# Altium schematic symbol library Boc1_3.schlib: 46 symbols
Pins are listed as number, name and electrical type; pins without a type are passive.

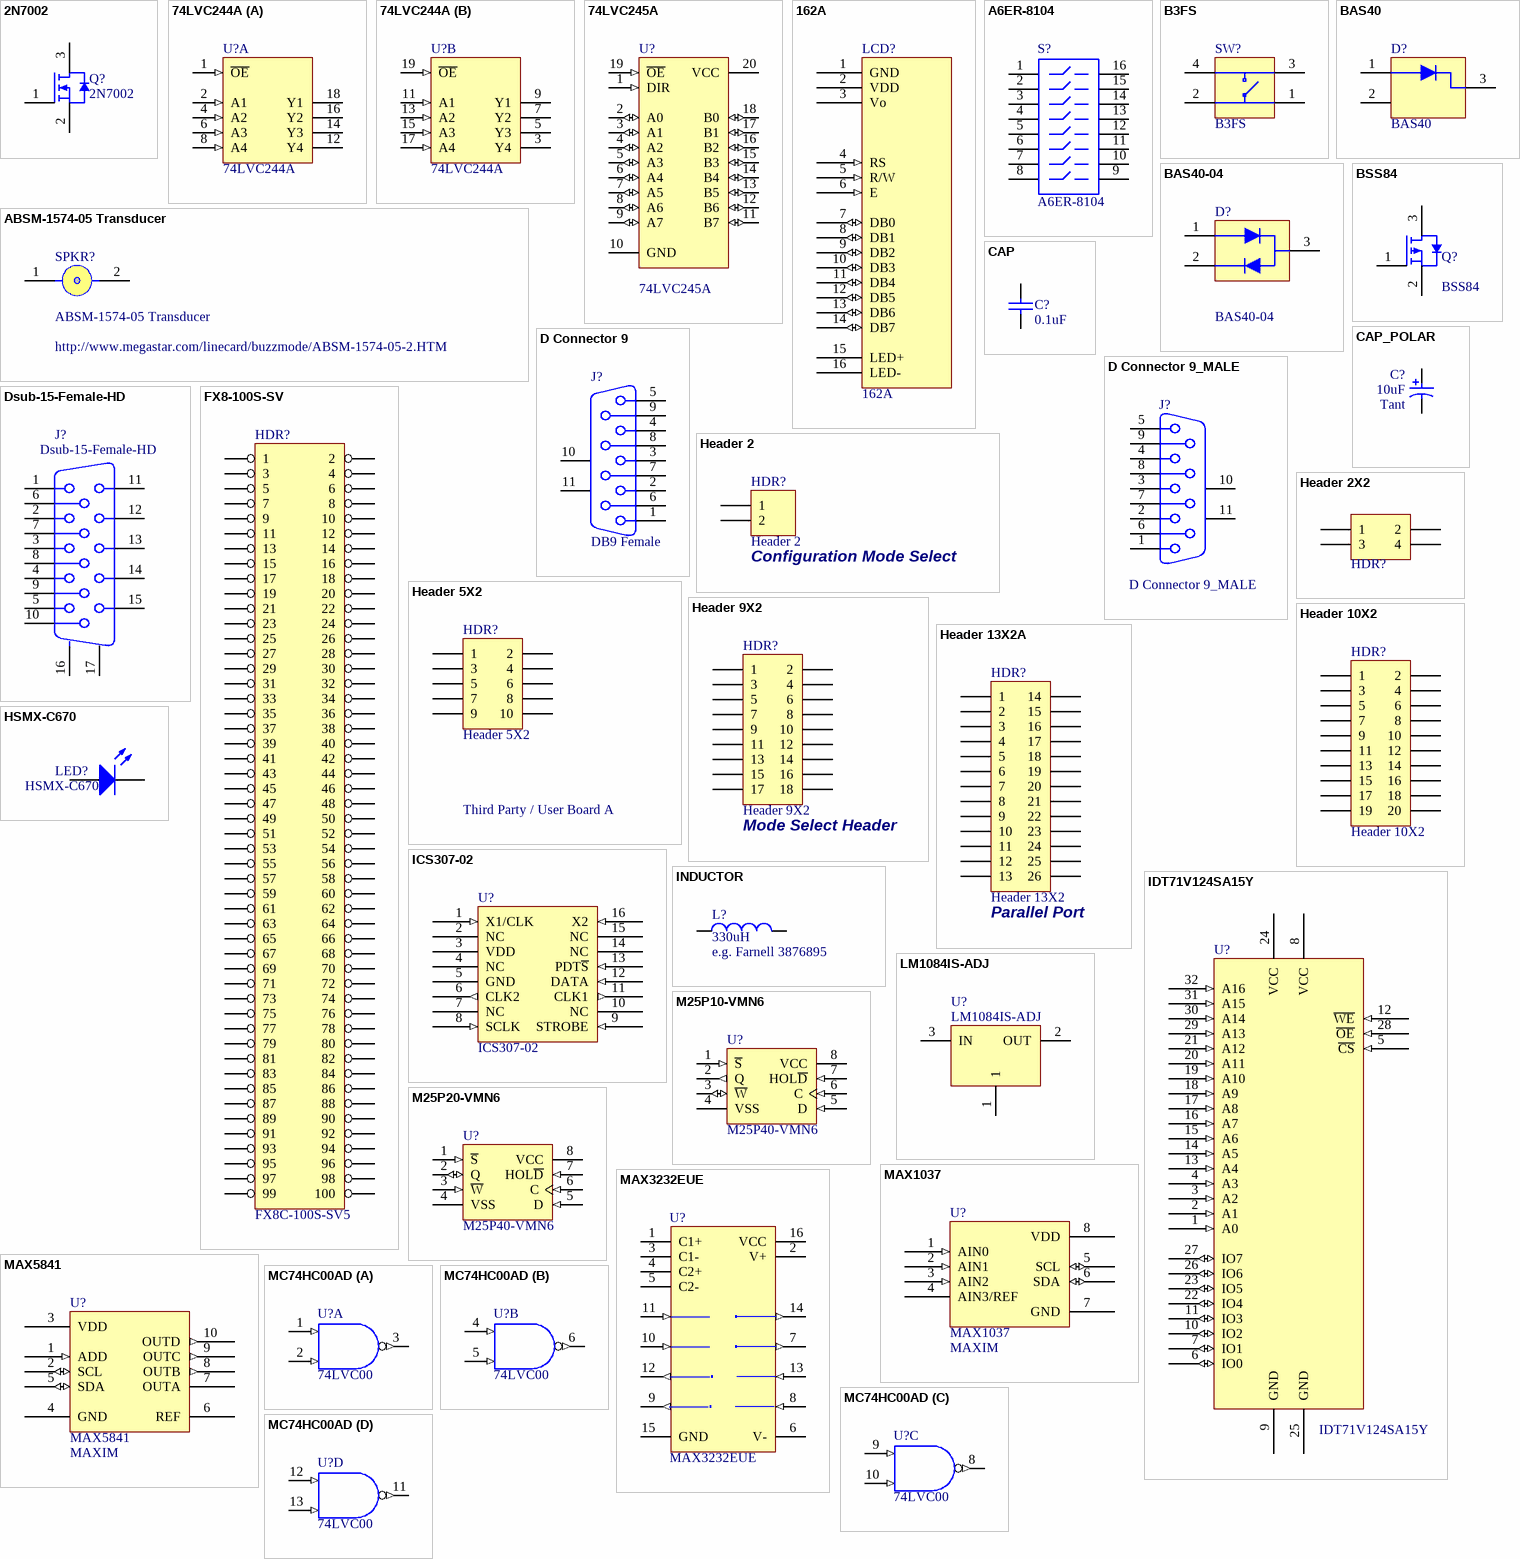
[diagram p0: symbols 2N7002 to MC74HC00AD]

## 2N7002
designator Q?
N Channel Mosfet; Fitted: True
footprint Model Name (Model Description)
footprint SO-G3
pins: 1 "Gate", 2 "Source", 3 "Drain"
1 alternate drawing of the same symbol

## 74LVC244A
designator U?
Octal Buffer/Driver with 3-State Outputs; Manufacturer: Philips; Package Information: Latest Revision: 1998; Class I: Logic; Class II: Buffer/Line Driver; Fitted: True; Published: 8-Jun-2000; Revision: July-2002: Re-released for DXP Platform.; Datasheet: Latest Revision: Jul-1998; Package Reference: SSOP20; Publisher: Altium Limited
signal-integrity model SNJ54AHC244FK
footprint SSO-G20/P.65
pins on every part: 10 GND (power) hidden to GND, 20 VCC (power) hidden to VCC
part A pins: 1 ~{OE} (in), 2 A1 (in), 4 A2 (in), 6 A3 (in), 8 A4 (in), 12 Y4 (hiz), 14 Y3 (hiz), 16 Y2 (hiz), 18 Y1 (hiz)
part B pins: 3 Y4 (hiz), 5 Y3 (hiz), 7 Y2 (hiz), 9 Y1 (hiz), 11 A1 (in), 13 A2 (in), 15 A3 (in), 17 A4 (in), 19 ~{OE} (in)

## 74LVC245A
designator U?
Octal Bus Transceiver with 3-State Outputs; Manufacturer: Texas Instruments; Revision 1: 12-July-2000: SIM Model Added.; Revision 2: July-2002: Re-released for DXP Platform.; Class I: Interface; Class II: Line Transceiver; Fitted: True; Published: 8-Jun-2000; Datasheet: Latest Revision: Oct-1993; Package Reference: J020; Publisher: Altium Limited
simulation model SN74F245 (SIMCODE)
signal-integrity model SN54F245J
footprint SSO-G20/P.65
pins: 1 DIR (in), 2 A0 (io), 3 A1 (io), 4 A2 (io), 5 A3 (io), 6 A4 (io), 7 A5 (io), 8 A6 (io), 9 A7 (io), 10 GND (power), 11 B7 (io), 12 B6 (io), 13 B5 (io), 14 B4 (io), 15 B3 (io), 16 B2 (io), 17 B1 (io), 18 B0 (io), 19 ~{OE} (in), 20 VCC (power)

## 162A
designator LCD?
16 char * 2 line LCD character display with b/light; Fitted: True
footprint 162A
pins: 1 GND (power) "VSS - 0V", 2 VDD (power) "VDD - 5V", 3 Vo (hiz) "Input Voltage For LCD", 4 RS (in) "H = Data Signal, L = Instrunction Signal", 5 R/W (in) "H = Read Mode, L = Write Mode", 6 E (in) "Chip Enable (H, H->L)", 7 DB0 (io) "Chip Enable (H, H->L)", 8 DB1 (io) "Chip Enable (H, H->L)", 9 DB2 (io) "Chip Enable (H, H->L)", 10 DB3 (io) "Chip Enable (H, H->L)", 11 DB4 (io) "Chip Enable (H, H->L)", 12 DB5 (io) "Chip Enable (H, H->L)", 13 DB6 (io) "Chip Enable (H, H->L)", 14 DB7 (io) "Chip Enable (H, H->L)", 15 LED+ (power) "LED Backlight +", 16 LED- (power) "LED Backlight -"

## A6ER-8104
designator S?
DIP Switch Side actuator long liver Piano Key; Manufacturer: Generic Components; Fitted: True; Published: 24-Mar-1999; Revision: July-2002: Re-released for DXP Platform.; Publisher: Altium Limited
footprint DIP-16-KEY
simulation model dpsw8 (Spice Subcircuit)
pins: 1, 2, 3, 4, 5, 6, 7, 8, 9, 10, 11, 12, 13, 14, 15, 16

## ABSM-1574-05 Transducer
designator SPKR?
Megastar Subminiature Transducer; Fitted: True; Web: http://www.megastar.com/linecard/buzzmode/ABSM-1574-05-2.HTM
footprint ABSM-1574 (Magnetic Transducer)
pins: 1, 1A, 2, 2A

## B3FS
designator SW?
SPNA SMD Keyboard Switch; Fitted: True; Comment_1: B3FS
footprint B3FS_SWITCH
pins: 1, 2, 3, 4

## BAS40
designator D?
Shottky Diode; Fitted: True
footprint SO-G3
pins: 1, 2, 3

## BAS40-04
designator D?
Shottky Diode Pair; Fitted: True
footprint SO-G3
pins: 1, 2, 3

## BSS84
designator Q?
P Channel Mosfet; Fitted: True
footprint Model Name (Model Description)
footprint SO-G3
pins: 1 "Gate", 2 "Source", 3 "Drain"

## CAP
designator C?, comment 0.1uF
Capacitor; Fitted: True
footprint CC1005-0402 (0402 Capacitor)
footprint CC1608-0603 (0603 Capacitor)
footprint CC2012-0805
footprint CC3216-1206 (1206 Capacitor)
footprint CC3225-1210 (1210 Capacitor)
pins: 1, 2

## CAP_POLAR
designator C?, comment 10uF  Capacitor Type: Tant
Polar Capacitor; Fitted: True
footprint MCCT-A (3216 Polar Capacitor)
footprint MCCT-B (3528 Polar Capacitor)
footprint MCCT-C (6032 Polar Capacitor)
footprint MCCT-D (7343 Polar Capacitor)
footprint RB8/3.5
pins: 1, 2

## D Connector 9
designator J?, comment DB9 Female
Receptacle Assembly, 9 Position, Right Angle; Manufacturer: Generic Components; Package Information: Latest Revision: O; Class I: Connector; Positions: 9; Fitted: True; Published: 15-Jun-2001; Revision: July-2002: Re-released for DXP Platform.; Datasheet: (1-Sep-1999); Package Reference: 788750; Publisher: Altium Limited; Orientation: Right Angle; Gender: Receptacle
footprint DSUB1.385-2H9
signal-integrity model Connector
pins: 1, 2, 3, 4, 5, 6, 7, 8, 9, 10 MH1, 11 MH2

## D Connector 9_MALE
designator J?
Receptacle Assembly, 9 Position, Right Angle; Manufacturer: Generic Components; Package Information: Latest Revision: O; Positions: 9; Fitted: True; Published: 15-Jun-2001; Revision: July-2002: Re-released for DXP Platform.; Datasheet: (1-Sep-1999); Package Reference: 788750; Publisher: Altium Limited; Class I: Connector; Orientation: Right Angle; Gender: Receptacle
footprint DSUB1.9_MALE
signal-integrity model Connector
pins: 1, 2, 3, 4, 5, 6, 7, 8, 9, 10 MH1, 11 MH2

## Dsub-15-Female-HD
designator J?
Dsub-15 High density VGA Female connetor; Manufacturer: Generic Components; Package Information: Latest Revision: E; Class I: Connector; Positions: 30; Gender: Receptacle Header; Fitted: True; Published: 15-Jun-2001; Revision: July-2002: Re-released for DXP Platform.; Datasheet: (31-Oct-1991); Package Reference: 174213; Publisher: Altium Limited; Orientation: Right Angle
signal-integrity model Connector
footprint DB15-VGA-Female (High density D sub 15 pin Female connector)
pins: 1 "Red Video", 2 "Green Video", 3 "Blue Video", 4 "Monitor ID Bit 2 (Ground)", 5 (power) "Ground", 6 (power) "Red Return (Ground)", 7 (power) "Green Return (Ground)", 8 (power) "Blue Return (Ground)", 9 "Key (not used)", 10 (power) "Sync Return (Ground)", 11 (power) "Monitor ID Bit 0 (Ground)", 12 "Monitor ID Bit 1 (Not Used)", 13 "Horizontal Zync", 14 "Vertical Sync", 15 "Vertical Sync", 16 MH1 "shield", 17 MH2 "shield"

## FX8-100S-SV
designator HDR?, comment FX8C-100S-SV5
Dual row 100 pin SM connector; Fitted: True
footprint FX8-100S-SV
pins: 1, 2, 3, 4, 5, 6, 7, 8, 9, 10, 11, 12, 13, 14, 15, 16, 17, 18, 19, 20, 21, 22, 23, 24, 25, 26, 27, 28, 29, 30, 31, 32, 33, 34, 35, 36, 37, 38, 39, 40, 41, 42, 43, 44, 45, 46, 47, 48, 49, 50, 51, 52, 53, 54, 55, 56, 57, 58, 59, 60, 61, 62, 63, 64, 65, 66, 67, 68, 69, 70, 71, 72, 73, 74, 75, 76, 77, 78, 79, 80, 81, 82, 83, 84, 85, 86, 87, 88, 89, 90, 91, 92, 93, 94, 95, 96, 97, 98, 99, 100

## Header 2
designator HDR?  Usage: Configuration Mode Select
Header, 2-Pin; Manufacturer: Generic Components; Class I: Connector; Fitted: False; Revision: July-2002: Re-released for DXP Platform.; Publisher: Altium Limited
footprint HDR1X2
signal-integrity model Connector
pins: 1, 2

## Header 2X2
designator HDR?  (value not drawn)
Header, 2-Pin, Dual row; Manufacturer: Generic Components; Class I: Connector; Fitted: True; Revision: July-2002: Re-released for DXP Platform.; Publisher: Altium Limited
footprint HDR2X2
signal-integrity model Connector
footprint HDR2X2_B (2x2 HDR un-numbered)
pins: 1, 2, 3, 4

## Header 5X2
designator HDR?  Usage: Third Party / User Board A
Header, 5-Pin, Dual row; Manufacturer: Generic Components; Class I: Connector; Fitted: True; Revision: July-2002: Re-released for DXP Platform.; Publisher: Altium Limited
footprint HDR2X5
signal-integrity model Connector
pins: 1, 2, 3, 4, 5, 6, 7, 8, 9, 10

## Header 9X2
designator HDR?  Usage: Mode Select Header
Header, 9-Pin, Dual row; Manufacturer: Generic Components; Class I: Connector; Fitted: True; Revision: July-2002: Re-released for DXP Platform.; Publisher: Altium Limited
footprint HDR2X9
signal-integrity model Connector
pins: 1, 2, 3, 4, 5, 6, 7, 8, 9, 10, 11, 12, 13, 14, 15, 16, 17, 18

## Header 10X2
designator HDR?
Header, 10-Pin, Dual row; Manufacturer: Generic Components; Class I: Connector; Fitted: True; Revision: July-2002: Re-released for DXP Platform.; Publisher: Altium Limited
footprint HDR2X10
signal-integrity model Connector
pins: 1, 2, 3, 4, 5, 6, 7, 8, 9, 10, 11, 12, 13, 14, 15, 16, 17, 18, 19, 20

## Header 13X2A
designator HDR?, comment Header 13X2  Usage: Parallel Port
Header, 13-Pin, Dual row; Manufacturer: Generic Components; Class I: Connector; Fitted: True; Revision: July-2002: Re-released for DXP Platform.; Publisher: Altium Limited
footprint HDR2X13_CEN
signal-integrity model Connector
pins: 1, 2, 3, 4, 5, 6, 7, 8, 9, 10, 11, 12, 13, 14, 15, 16, 17, 18, 19, 20, 21, 22, 23, 24, 25, 26

## HSMX-C670
designator LED?
Typical RED GaAs SMD LED Agilent make; Manufacturer: Generic Components; Class I: Optoelectronic; Fitted: True; Published: 8-Jun-2000; Revision: July-2002: Re-released for DXP Platform.; Publisher: Altium Limited; Class II: LED
footprint SMD _LED
simulation model LED1 (Diode)
pins: 1 A, 2 K

## ICS307-02
designator U?
Serial Programmable PLL Oscillator; Fitted: True
footprint SO-G16
pins: 1 X1/CLK (in) "Reference Word Devider Input", 2 NC "Reference Word Devider Input", 3 VDD (power) "Positive Supply, 3V3 or 5V", 4 NC, 5 GND (power), 6 CLK2 (out) "Fixed Clock Ref", 7 NC "Crystal connection", 8 SCLK (in) "Serial Programming Clock", 9 STROBE (in) "Serial Programming Strobe", 10 NC, 11 CLK1 (out) "Variable Clock Output", 12 DATA (in) "Serial Programming Data", 13 PDT~{S} (in) "Low = TriState CLK1 and CLK2 and Power Down", 14 NC, 15 NC, 16 X2 (in) "Crystal Terminal"

## IDT71V124SA15Y
designator U?
128K x 8 bit Fast Static RAM; Fitted: True; Supplier: IDT
footprint SO-J32
pins: 1 A0 (in) "Address 0", 2 A1 (in) "Address 1", 3 A2 (in) "Address 3", 4 A3 (in) "Address 3", 5 ~{CS} (in) "Chip Select", 6 IO0 (io) "Data 0", 7 IO1 (io) "Data 1", 8 VCC (power) "Pos Supply", 9 GND (power), 10 IO2 (io) "Data 2", 11 IO3 (io) "Data 3", 12 ~{WE} (in) "Write Enable", 13 A4 (in) "Address 4", 14 A5 (in) "Address 5", 15 A6 (in) "Address 6", 16 A7 (in) "Address 7", 17 A8 (in) "Address 8", 18 A9 (in) "Address 9", 19 A10 (in) "Address 10", 20 A11 (in) "Address 11", 21 A12 (in) "Address 12", 22 IO4 (io) "Data 4", 23 IO5 (io) "Data 5", 24 VCC (power) "Pos Supply", 25 GND (power), 26 IO6 (io) "Data 6", 27 IO7 (io) "Data 7", 28 ~{OE} (in) "Output Enable", 29 A13 (in) "Address 13", 30 A14 (in) "Address 14", 31 A15 (in) "Address 15", 32 A16 (in) "Address 16"

## INDUCTOR
designator L?, comment 330uH  Part No: e.g. Farnell 3876895
Inductor e.g. Farnell 3876895; Fitted: True
footprint DT3316 (Model Description)
footprint CC4532-1812
pins: 1, 2

## LM1084IS-ADJ
designator U?
5A Low Dropout Possitive Regulators; Fitted: True
footprint TO-263 (D2-PACK SIP-G3/P2.54)
pins: 1 "Output", 2 OUT (power) "Output", 3 IN (power) "Input"

## M25P10-VMN6
designator U?, comment M25P40-VMN6
4 Mbit Flash Serial Prom; Fitted: True
footprint SO-G8
pins: 1 ~{S} (in), 2 Q (out) "Serial Output", 3 ~{W} (io) "Serial Output", 4 VSS (power) "Serial Output", 5 D (in) "Serial Input", 6 C (in) "Serial Input", 7 HOL~{D} (in) "Serial Input", 8 VCC (power) "Serial Input"

## M25P20-VMN6
designator U?, comment M25P40-VMN6
4 Mbit Flash Serial Prom; Fitted: True
footprint SO-G8
pins: 1 ~{S} (in), 2 Q (io) "Serial Output", 3 ~{W} (in) "Serial Output", 4 VSS (power) "Serial Output", 5 D (in) "Serial Input", 6 C (in) "Serial Input", 7 HOL~{D} (in) "Serial Input", 8 VCC (power) "Serial Input"

## MAX1037
designator U?  Supplier: MAXIM
4 Channel 8 Bit ADC, I2C interface, 2.7V to 3.6V Supply; Fitted: True
footprint SOT23_8
pins: 1 AIN0 (in) "Analog Input 0", 2 AIN1 (in) "Analog Input 0", 3 AIN2 (in) "Analog Input 0", 4 AIN3/REF (power) "Analog Input 3/ Reference Input", 5 SCL (io) "I2C Clock Line", 6 SDA (io) "I2C Data Line", 7 GND (power), 8 VDD (power) "Positive Supply"

## MAX3232EUE
designator U?
3.0V TO 5.5V, Low-Power, up to 1Mbps, True RS-232 Transceiver Using Four 0.1µF External Capacitor; Manufacturer: Maxim,ST; Package Information: Latest Revision: 21-0066 C; Class I: Communication; Published: 16-Jan-2001; Revision: July-2002: Re-released for DXP Platform.; Datasheet: Latest Revision: Mar-1999; Package Reference: TSSOP16; Publisher: Altium Limited; Class II: Transceiver; Fitted: True
footprint SO-G16
pins: 1 C1+, 2 V+ (power), 3 C1-, 4 C2+, 5 C2-, 6 V- (power), 7 T2OUT (out), 8 R2IN (in), 9 R2OUT (out), 10 T2IN (in), 11 T1IN (in), 12 R1OUT (out), 13 R1IN (in), 14 T1OUT (out), 15 GND (power), 16 VCC (power)

## MAX5841
designator U?  Supplier: MAXIM
4 Channel DAC,I2C,2.7V to 5.5V; Fitted: True
footprint uSOP10
pins: 1 ADD (in) "I2C Address Select", 2 SCL (io) "I2C Clock", 3 VDD (power) "Positive Supply 2.7V to 5.5V", 4 GND (power), 5 SDA (io) "GND", 6 REF "Reference Voltage Input 1V to VDD", 7 OUTA "DAC Output", 8 OUTB (out) "DAC Output", 9 OUTC (out) "DAC Output", 10 OUTD (out) "DAC Output"

## MC74HC00AD
designator U?, comment 74LVC00
Quad 2-Input NAND Gate; Manufacturer: Motorola; Package Information: Latest Revision: 1991; Class I: Logic; Fitted: True; Published: 15-Apr-2002; Datasheet: High-Speed CMOS Logic Data, DL129 Rev4 (1989); Package Reference: 751A-02; Publisher: Altium Limited; Class II: Gate
footprint SO-G14/Y2.2
signal-integrity model MC74HC00AD
pins on every part: 7 GND (power) hidden to GND, 14 VDD (power) hidden to VCC
part A pins: 1 A (in), 2 B (in), 3 Y (out)
part B pins: 4 A (in), 5 B (in), 6 Y (out)
part C pins: 8 Y (out), 9 A (in), 10 B (in)
part D pins: 11 Y (out), 12 A (in), 13 B (in)

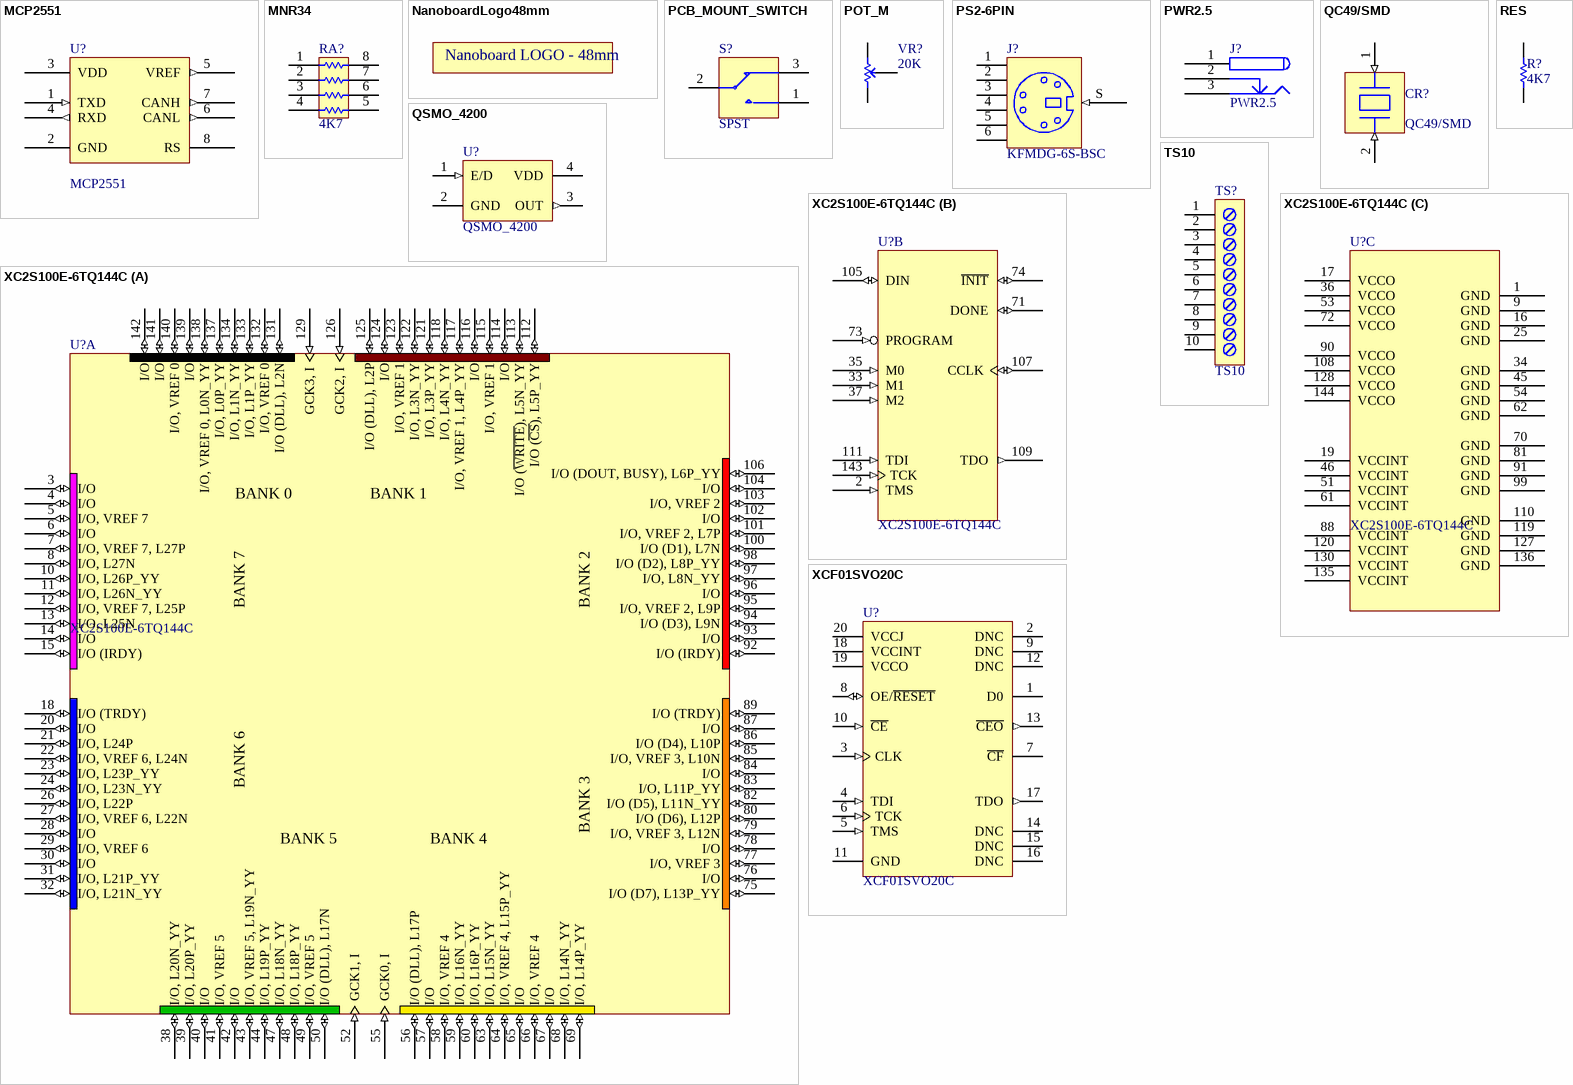
[diagram p1: symbols MCP2551 to XCF01SVO20C]

## MCP2551
designator U?
High Speed Can Transceiver; Fitted: True
footprint SOIC8
pins: 1 TXD (in) "Screw Terminal", 2 GND (power), 3 VDD (power) "Positive Supply 4.5V to 5.5V", 4 RXD (out) "Receive Data", 5 VREF (out) "Reference Voltage", 6 CANL (out) "CAN Bus Low Line", 7 CANH (out) "CAN Bus High Line", 8 RS "Mode/Slope Setting"

## MNR34
designator RA?, comment 4K7
3216x4 Resistor Array; Fitted: True
footprint MNR34 (3216x4 Resistor Array)
pins: 1, 2, 3, 4, 5, 6, 7, 8

## NanoboardLogo48mm
designator LOGO?  (value not drawn)  (graphical)
footprint NanoboardLogo48mm (Satelite board Logo)
text: Nanoboard LOGO - 48mm

## PCB_MOUNT_SWITCH
designator S?, comment SPST
SPDT Subminiature Toggle Switch; Fitted: True
footprint PCB_SWITCH
pins: 1, 2, 3

## POT_M
designator VR?, comment 20K
Potentiometer; Fitted: True
footprint POT4MM (Model Description)
footprint POT4MM-2 (Millison supplied 4mm pot)
pins: CCW -, CW +, W

## PS2-6PIN
designator J?, comment KFMDG-6S-BSC
6 Pin Through Hole PS2 Socket (Kycon P/N); Fitted: True; Webpdf: http://www.kycon.com/Pub_Eng_Draw/KFMDG-xS-BSC.pdf
footprint PS2-6PIN (PS2 Connector)
pins: 1, 2, 3, 4, 5, 6, S (in)

## PWR2.5
designator J?
Low Voltage Power Supply Sonnector; Fitted: True
footprint PWR2.5 (Model Description)
pins: 1 (power), 2 (power), 3 (power)

## QC49/SMD
designator CR?
SMD Crystal 20MHz HY-Q; Fitted: True; C-MAC Watch Crystal: *; Farnel/RS-316-0312: *; 4.13$: *; C-MAC/FOX: *; Future: *
footprint QC49/SMD (SMD Crystal)
footprint QC49/SMD (SMD Crystal)
pins: 1 (in), 2 (in)

## QSMO_4200
designator U?
Surface Mount Crystal Oscillator; Fitted: False
footprint QSMO_4200
pins: 1 E/D (in) "Low Disables Clock", 2 GND (power), 3 OUT (out) "Output", 4 VDD (power)

## RES
designator R?, comment 4K7
Resistor; Fitted: True
footprint CC1005-0402 (0402 Resistor)
footprint CC1310-0504 (0504 Resistor)
footprint CC1608-0603 (0603 Resistor)
footprint CC2012-0805 (0805 Resistor)
footprint CC3216-1206 (1206 Resistor)
footprint CC3225-1210 (1210 Resistor)
footprint CC4513-1805 (1805 Resistor)
footprint CC2512 (2512 Resistor)
footprint CC3225-0805
footprint CC1202-0805
pins: 1, 2

## TS10
designator TS?
Screw Terminal Strip, 10 Way, 2.54 mm Pitch; Fitted: True
footprint TS2.54x10 (10 way 2.54mm Pitch screw terminal)
pins: 1 "Screw Terminal", 2 "Screw Terminal", 3 "Screw Terminal", 4 "Screw Terminal", 5 "Screw Terminal", 6 "Screw Terminal", 7 "Screw Terminal", 8 "Screw Terminal", 9 "Screw Terminal", 10 "Screw Terminal"

## XC2S100E-6TQ144C
designator U?
Spartan-IIE 1.8V FPGA, 144-Pin TQFP, Standard Performance, Commercial Grade; Manufacturer: Xilinx; Package Information: Latest Revision: ver1.1, Oct-2002; Class I: Field Programmable Gate Array; Code - JEDEC: MS-026-BFB; Code - IPC: SQFP20X20-144; Fitted: True; Published: 19-Jul-2002; Revision: 25-Aug-2003; Datasheet: Latest Revision: 14-Feb-2003; Package Reference: TQ144; Publisher: Altium Limited; Class II: Spartan-IIE
footprint TQ144 (144-Pin Thin Quad Flat Pack (TQ144))
3D model XC2S100E-TQ144 (PCB3D Model)
part A pins: 3 I/O (io), 4 I/O (io), 5 I/O, VREF 7 (io), 6 I/O (io), 7 I/O, VREF 7, L27P (io), 8 I/O, L27N (io), 10 I/O, L26P_YY (io), 11 I/O, L26N_YY (io), 12 I/O, VREF 7, L25P (io), 13 I/O, L25N (io), 14 I/O (io), 15 I/O (IRDY) (io), 18 I/O (TRDY) (io), 20 I/O (io), 21 I/O, L24P (io), 22 I/O, VREF 6, L24N (io), 23 I/O, L23P_YY (io), 24 I/O, L23N_YY (io), 26 I/O, L22P (io), 27 I/O, VREF 6, L22N (io), 28 I/O (io), 29 I/O, VREF 6 (io), 30 I/O (io), 31 I/O, L21P_YY (io), 32 I/O, L21N_YY (io), 38 I/O, L20N_YY (io), 39 I/O, L20P_YY (io), 40 I/O (io), 41 I/O, VREF 5 (io), 42 I/O (io), 43 I/O, VREF 5, L19N_YY (io), 44 I/O, L19P_YY (io), 47 I/O, L18N_YY (io), 48 I/O, L18P_YY (io), 49 I/O, VREF 5 (io), 50 I/O (DLL), L17N (io), 52 GCK1, I (in), 55 GCK0, I (in), 56 I/O (DLL), L17P (io), 57 I/O (io), 58 I/O, VREF 4 (io), 59 I/O, L16N_YY (io), 60 I/O, L16P_YY (io), 63 I/O, L15N_YY (io), 64 I/O, VREF 4, L15P_YY (io), 65 I/O (io), 66 I/O, VREF 4 (io), 67 I/O (io), 68 I/O, L14N_YY (io), 69 I/O, L14P_YY (io), 75 I/O (D7), L13P_YY (io), 76 I/O (io), 77 I/O, VREF 3 (io), 78 I/O (io), 79 I/O, VREF 3, L12N (io), 80 I/O (D6), L12P (io), 82 I/O (D5), L11N_YY (io), 83 I/O, L11P_YY (io), 84 I/O (io), 85 I/O, VREF 3, L10N (io), 86 I/O (D4), L10P (io), 87 I/O (io), 89 I/O (TRDY) (io), 92 I/O (IRDY) (io), 93 I/O (io), 94 I/O (D3), L9N (io), 95 I/O, VREF 2, L9P (io), 96 I/O (io), 97 I/O, L8N_YY (io), 98 I/O (D2), L8P_YY (io), 100 I/O (D1), L7N (io), 101 I/O, VREF 2, L7P (io), 102 I/O (io), 103 I/O, VREF 2 (io), 104 I/O (io), 106 I/O (DOUT, BUSY), L6P_YY (io), 112 I/O (~{CS}), L5P_YY (io), 113 I/O (~{WRITE}), L5N_YY (io), 114 I/O (io), 115 I/O, VREF 1 (io), 116 I/O (io), 117 I/O, VREF 1, L4P_YY (io), 118 I/O, L4N_YY (io), 121 I/O, L3P_YY (io), 122 I/O, L3N_YY (io), 123 I/O, VREF 1 (io), 124 I/O (io), 125 I/O (DLL), L2P (io), 126 GCK2, I (in), 129 GCK3, I (in), 131 I/O (DLL), L2N (io), 132 I/O, VREF 0 (io), 133 I/O, L1P_YY (io), 134 I/O, L1N_YY (io), 137 I/O, L0P_YY (io), 138 I/O, VREF 0, L0N_YY (io), 139 I/O (io), 140 I/O, VREF 0 (io), 141 I/O (io), 142 I/O (io)
part B pins: 2 TMS (in), 33 M1 (in), 35 M0 (in), 37 M2 (in), 71 DONE (io), 73 PROGRAM (in), 74 ~{INIT} (io), 105 DIN (io), 107 CCLK (io), 109 TDO (out), 111 TDI (in), 143 TCK (in)
part C pins: 1 GND (power), 9 GND (power), 16 GND (power), 17 VCCO (power), 19 VCCINT (power), 25 GND (power), 34 GND (power), 36 VCCO (power), 45 GND (power), 46 VCCINT (power), 51 VCCINT (power), 53 VCCO (power), 54 GND (power), 61 VCCINT (power), 62 GND (power), 70 GND (power), 72 VCCO (power), 81 GND (power), 88 VCCINT (power), 90 VCCO (power), 91 GND (power), 99 GND (power), 108 VCCO (power), 110 GND (power), 119 GND (power), 120 VCCINT (power), 127 GND (power), 128 VCCO (power), 130 VCCINT (power), 135 VCCINT (power), 136 GND (power), 144 VCCO (power)
part A text: BANK 0; BANK 1; BANK 7; BANK 2; BANK 6; BANK 3; BANK 5; BANK 4

## XCF01SVO20C
designator U?
XCF00S Series, Platform Flash In-System Programmable Configuration 3.3V PROM, 1-Megabit, Commercial Grade; Manufacturer: Xilinx; Package Information: Latest Revision: ver1.0, May-2003; Class I: Memory; Code - JEDEC: MO-153-AC; Fitted: True; Published: 20-Aug-2003; Datasheet: Latest Revision: ver1.1, June-2003; Package Reference: VO20; Publisher: Altium Limited; Class II: PROM
footprint VO20 (20-Lead TSOP (VO20))
pins: 1 D0 (hiz) "Serial Data Output, for configuring an FPGA in serial mode.", 2 DNC "Leave Unconnected.", 3 CLK (in) "Configuration Clock Input.", 4 TDI (in) "JTAG Serial Data Input.", 5 TMS (in) "JTAG Mode Select Input.", 6 TCK (in) "JTAG Test Clock Input.", 7 ~{CF} (oc) "Configuration Pulse (Open-Drain Output).", 8 OE/~{RESET} (io) "Output Enable/Reset (Open-Drain I/O).", 9 DNC "Leave Unconnected.", 10 ~{CE} (in) "Chip Enable Input.", 11 GND (power) "Ground", 12 DNC "Leave Unconnected.", 13 ~{CEO} (out) "Chip Enable Output, connects to the CE input of the next PROM in the chain.", 14 DNC "Leave Unconnected.", 15 DNC "Leave Unconnected.", 16 DNC "Leave Unconnected.", 17 TDO (out) "JTAG Serial Data Output.", 18 VCCINT (power) "+3.3V Supply for internal logic.", 19 VCCO (power) "+3.3V, 2.5V, or 1.8V I/O Supply.", 20 VCCJ (power) "+3.3V or 2.5V JTAG Signals I/O Supply."